# EAGLE library part M45 (library xmaker)
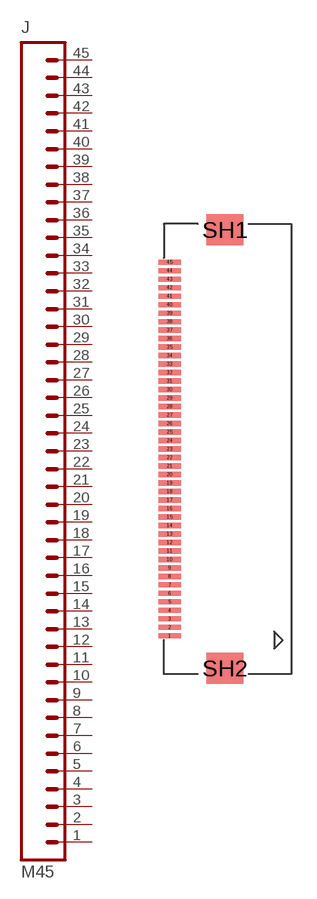
[diagram p15: symbol with the pads of FH12-45S; footprint FH12-45S]

Designator prefix J

## M45  [FH12-45S]
1  1  pas
2  2  pas
3  3  pas
4  4  pas
5  5  pas
6  6  pas
7  7  pas
8  8  pas
9  9  pas
10  10  pas
11  11  pas
12  12  pas
13  13  pas
14  14  pas
15  15  pas
16  16  pas
17  17  pas
18  18  pas
19  19  pas
20  20  pas
21  21  pas
22  22  pas
23  23  pas
24  24  pas
25  25  pas
26  26  pas
27  27  pas
28  28  pas
29  29  pas
30  30  pas
31  31  pas
32  32  pas
33  33  pas
34  34  pas
35  35  pas
36  36  pas
37  37  pas
38  38  pas
39  39  pas
40  40  pas
41  41  pas
42  42  pas
43  43  pas
44  44  pas
45  45  pas

## Footprint FH12-45S (pad centres in mm)
Hirose
smd 1.3 x 0.3: 1 -3.25,-11; 2 -3.25,-10.5; 3 -3.25,-10; 4 -3.25,-9.5; 5 -3.25,-9; 6 -3.25,-8.5; 7 -3.25,-8; 8 -3.25,-7.5; 9 -3.25,-7; 10 -3.25,-6.5; 11 -3.25,-6; 12 -3.25,-5.5; 13 -3.25,-5; 14 -3.25,-4.5; 15 -3.25,-4; 16 -3.25,-3.5; 17 -3.25,-3; 18 -3.25,-2.5; 19 -3.25,-2; 20 -3.25,-1.5; 21 -3.25,-1; 22 -3.25,-0.5; 23 -3.25,0; 24 -3.25,0.5; 25 -3.25,1; 26 -3.25,1.5; 27 -3.25,2; 28 -3.25,2.5; 29 -3.25,3; 30 -3.25,3.5; 31 -3.25,4; 32 -3.25,4.5; 33 -3.25,5; 34 -3.25,5.5; 35 -3.25,6; 36 -3.25,6.5; 37 -3.25,7; 38 -3.25,7.5; 39 -3.25,8; 40 -3.25,8.5; 41 -3.25,9; 42 -3.25,9.5; 43 -3.25,10; 44 -3.25,10.5; 45 -3.25,11
smd 2.2 x 1.8: SH1 0,12.9; SH2 0,-12.9